# Altium schematic symbol library REF3030AIDBZR.SchLib: 1 symbol
Pins are listed as number, name and electrical type; pins without a type are passive.

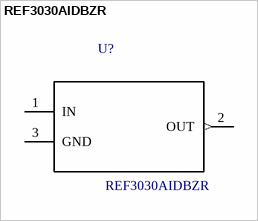
[diagram p0: symbol REF3030AIDBZR]

## REF3030AIDBZR
designator U?
3.0V 50ppm/Degrees C, 50uA in SOT23-3 Series _Bandgap_ Voltage Reference 3-SOT-23 -40 to 125; MF: Texas Instruments; Price: None; SnapEDA_Link: https://www.snapeda.com/parts/REF3030AIDBZR/Texas%20Instruments/view-part/?ref=snap; Availability: Unavailable; MP: REF3030AIDBZR; Package: SOT-23-3 Texas Instruments; Value: *
footprint *SOT95P237X112-3N
pins: 1 IN (power), 2 OUT (out), 3 GND